# Altium schematic symbol library diode.SchLib: 4 symbols
Pins are listed as number, name and electrical type; pins without a type are passive.

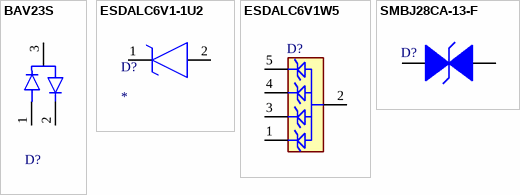
[diagram p0: symbols BAV23S to SMBJ28CA-13-F]

## BAV23S
designator D?  (value not drawn)
DIODE ARRAY GP 250V 200MA SOT23; Manufacturer: onsemi; Manufacturer Part Number: BAV23S; Category: Diodo; Datasheet: https://www.onsemi.com/pdf/datasheet/bav23s-d.pdf
footprint BAV23S
pins: 1, 2, 3

## ESDALC6V1-1U2
designator D?
TVS Diode (Uni-directional); Manufacturer: STMicroelectronics; Manufacturer Part Number: ESDALC6V1-1U2; Category: Diodo; Datasheet: http://www.st.com/web/en/resource/technical/document/datasheet/CD00212838.pdf
footprint ESDALC6V1-1U2
pins: 1 K, 2 A

## ESDALC6V1W5
designator D?  (value not drawn)
TVS Diode Array Uni-Directional 6.1V / QTY 5 per pack, SOT-323 / Ranking 5: / Marca reconocida. / Usado en placas nucleo, sometidas a manipuleo nunca note un pin quemado por ESD.; Manufacturer: ST; Manufacturer Part Number: ESDALC6V1W5; Category: Diodo; Datasheet: https://www.st.com/content/ccc/resource/technical/document/datasheet/32/30/02/e6/ac/0f/46/c2/CD00002946.pdf/files/CD00002946.pdf/jcr:content/translations/en.CD00002946.pdf
footprint ESDALC6V1W5
pins: 1 I/01, 2 GND, 3 I/02, 4 I/03, 5 I/04

## SMBJ28CA-13-F
designator D?
Manufacturer: Diodes Incorporated; Manufacturer Part Number: SMBJ24CA; Value: 24V - 26.7V - 38.9V; Category: Diodo; Datasheet: https://datasheet.lcsc.com/lcsc/2304140030_Diodes-Incorporated-SMBJ28CA-13-F_C135064.pdf
footprint SMBJ28CA-13-F
pins: A, K